# EAGLE library part G6S-2F-Y-DC5 (library G6S-2F-Y-DC5)
Electromechanical Relay DPDT 2A 5VDC 125Ohm Surface Mount
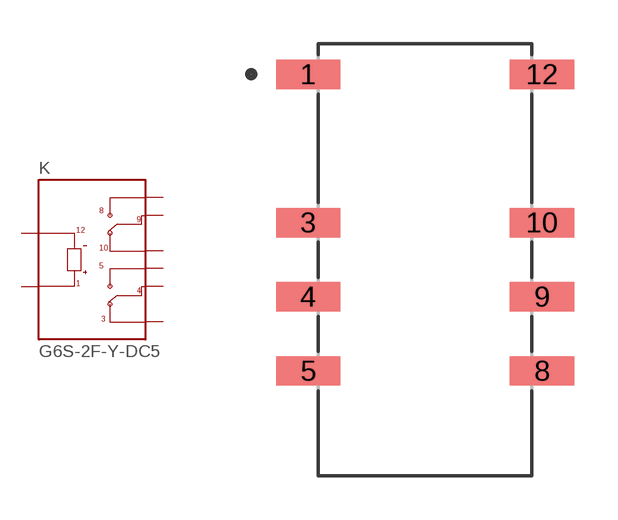
[diagram p0: symbol with the pads of RELAY_G6S-2F-Y-DC5; footprint RELAY_G6S-2F-Y-DC5]

Designator prefix K

## G6S-2F-Y-DC5 (Availability: Unavailable; Description: Electromechanical Relay DPDT 2A 5VDC 125Ohm Surface Mount; MF: Omron; MP: G6S-2F-Y-DC5; Package: None; Price: None)  [RELAY_G6S-2F-Y-DC5]
1  1  pas
3  3  pas
4  4  pas
5  5  pas
8  8  pas
9  9  pas
10  10  pas
12  12  pas

## Footprint RELAY_G6S-2F-Y-DC5 (pad centres in mm)
smd 2.2 x 1: 1 -4,6.35; 3 -4,1.27; 4 -4,-1.27; 5 -4,-3.81; 8 4,-3.81; 9 4,-1.27; 10 4,1.27; 12 4,6.35